# EAGLE library part S18V20F12_VOLT_REG-12V_2A (library Pololu)
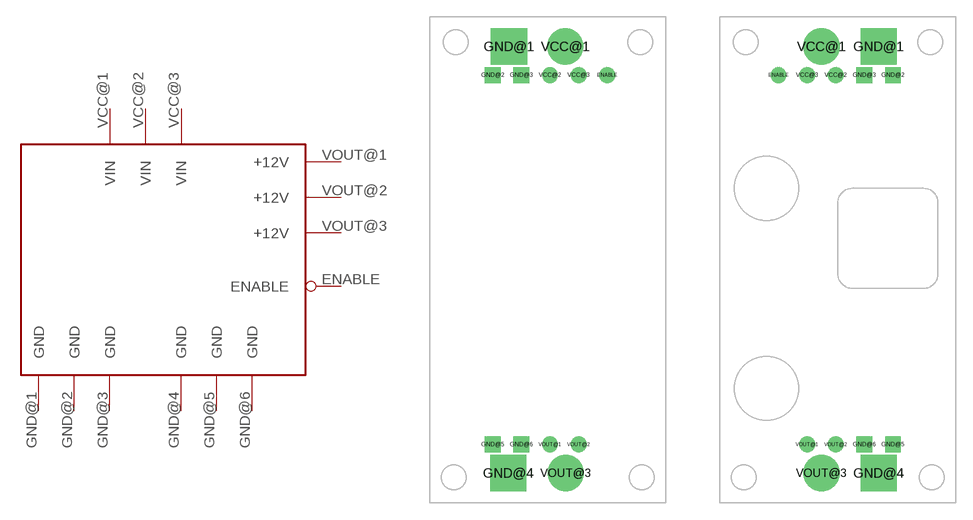
[diagram p5: symbol with the pads of S18V_DOWN; footprints S18V_DOWN, S18V_UP]

Designator prefix -

## S18V20F12_VOLT_REG-12V_2AHORZ-DOWN  [S18V_DOWN]
ENABLE  ENABLE  out
GND@1  GND  pwr
GND@2  GND  pwr
GND@3  GND  pwr
GND@4  GND  pwr
GND@5  GND  pwr
GND@6  GND  pwr
VCC@1  VIN  pwr
VCC@2  VIN  pwr
VCC@3  VIN  pwr
VOUT@1  +12V  out
VOUT@2  +12V  out
VOUT@3  +12V  out

## S18V20F12_VOLT_REG-12V_2AHORZ-UP  [S18V_UP]

## Footprint S18V_DOWN (pad centres in mm)
drill 0.9: ENABLE 5.271,16.42; VCC@2 0.191,16.42; VCC@3 2.731,16.42; VOUT@1 0.191,-16.42; VOUT@2 2.731,-16.42
drill 2.2 square: GND@1 -3.45,18.96; GND@4 -3.514,-18.96
drill 0.9 square: GND@2 -4.889,16.42; GND@3 -2.349,16.42; GND@5 -4.889,-16.42; GND@6 -2.349,-16.42
drill 2.2: VCC@1 1.55,18.96; VOUT@3 1.587,-18.96

## Footprint S18V_UP (pad centres in mm)
drill 0.9: ENABLE -5.271,16.42; VCC@2 -0.191,16.42; VCC@3 -2.731,16.42; VOUT@1 -2.731,-16.42; VOUT@2 -0.191,-16.42
drill 2.2 square: GND@1 3.619,18.96; GND@4 3.619,-18.96
drill 0.9 square: GND@2 4.889,16.42; GND@3 2.349,16.42; GND@5 4.889,-16.42; GND@6 2.349,-16.42
drill 2.2: VCC@1 -1.46,18.96; VOUT@3 -1.46,-18.96